# Altium footprint library MainPcblib.PcbLib: 316 footprints (part 3 of 20)
Each footprint in its own frame and in the unit in brackets; x right, y up, seen from the top. Pads: shape width x height; smd on the part's side, far side on the other; paste and mask are expansions set on the pad; w line width, h text height; cw(c..) or ccw(c..) is an arc to the next point about the centre after c.
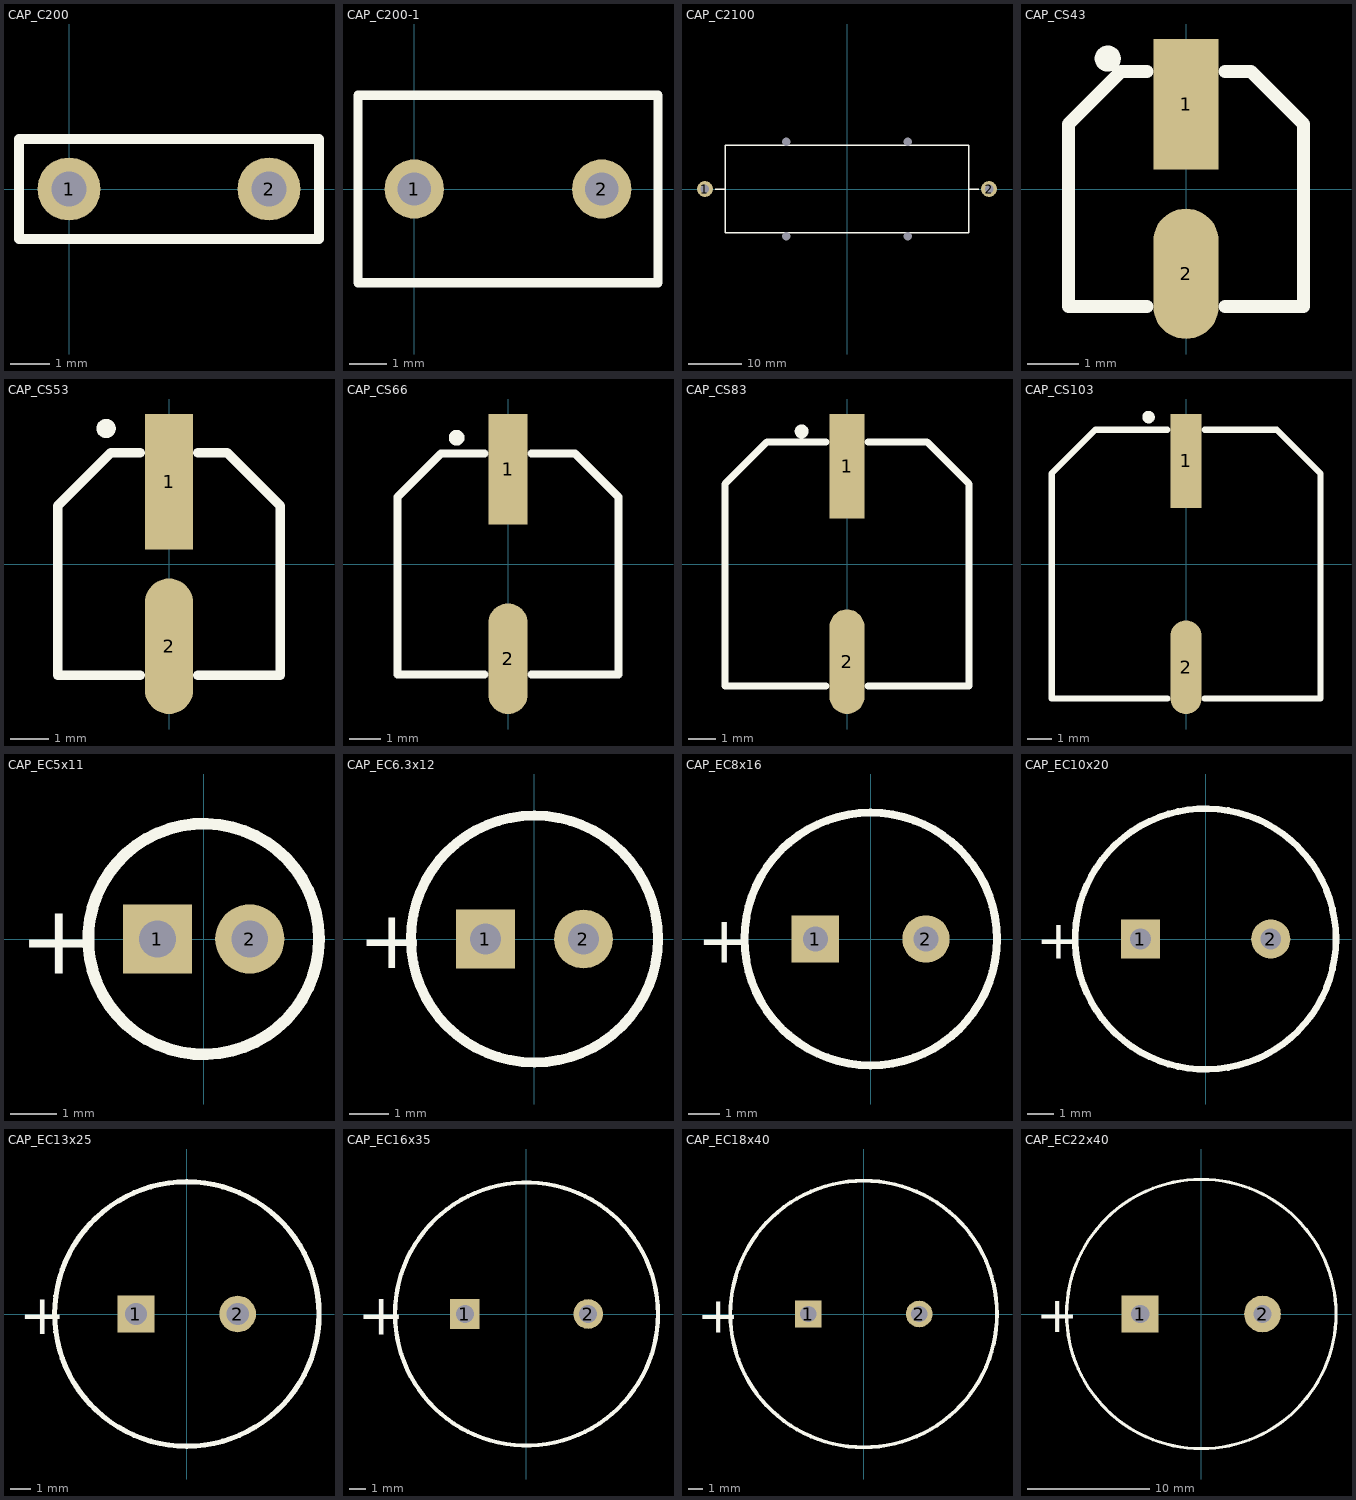
[diagram p2: the footprints below, top view; thin cyan lines are the x and y axes]

## CAP_C200 [mm]
pads (2):
  round 1.6 hole 0.9: 1(0,0) 2(5.08,0)
Top Overlay:
  lines w0.254: -1.27,-1.27 0,-1.27 5.08,-1.27 6.35,-1.27 6.35,1.27 5.08,1.27 0,1.27 -1.27,1.27 -1.27,-1.27

## CAP_C200-1 [mm]
pads (2):
  round 1.6 hole 0.9: 1(0,0) 2(5.08,0)
Top Overlay:
  lines w0.254: -0.508,-2.54 4.572,-2.54 ; 0,2.54 5.08,2.54 ; 1.016,-2.54 -1.524,-2.54 -1.524,2.54 1.016,2.54 ; 4.064,-2.54 6.604,-2.54 6.604,2.54 4.064,2.54

## CAP_C2100 [mm] "C 100n/1kV paper in oil"
pads (6):
  round 3 hole 1.6: 1(-26.67,0) 2(26.67,0)
  round 0 hole 1.6: 3(-11.43,-8.89) 4(-11.43,8.89) 5(11.43,8.89) 6(11.43,-8.89)
Top Overlay:
  lines w0.254: -24.765,0 -22.86,0 ; 22.86,0 24.765,0 ; -22.86,0 -22.86,8.255 22.86,8.255 22.86,-8.255 -22.86,-8.255 -22.86,0

## CAP_CS43 [mil] "SMD CAP 4.3mm x2"
height 200
pads (2):
  rect 50x100 smd: 1(0,65)
  oval 50x100 smd: 2(0,-65)
Top Overlay:
  circle w10: c-60,100 r5
  lines w10: -30,-90 -90,-90 -90,50 -50,90 -30,90 ; 30,-90 90,-90 90,50 50,90 30,90

## CAP_CS53 [mil] "SMD CAP 5.3mm x2"
height 200
pads (2):
  rect 50x140 smd: 1(0,85)
  oval 50x140 smd: 2(0,-85)
Top Overlay:
  circle w10: c-65,140 r5
  lines w10: -30,-115 -115,-115 -115,60 -60,115 -30,115 ; 30,-115 115,-115 115,60 60,115 30,115

## CAP_CS66 [mil] "SMD CAP 6.6mm x2"
height 200
pads (2):
  rect 50x140 smd: 1(0,120)
  oval 50x140 smd: 2(0,-120)
Top Overlay:
  circle w10: c-65,160 r5
  lines w10: -30,-140 -140,-140 -140,85 -85,140 -30,140 ; 30,-140 140,-140 140,85 85,140 30,140

## CAP_CS83 [mil] "SMD CAP 8.3mm x2"
height 400
pads (2):
  rect 50x150 smd: 1(0,140)
  oval 50x150 smd: 2(0,-140)
Top Overlay:
  circle w10: c-65,190 r5
  lines w10: -30,-175 -175,-175 -175,115 -115,175 -30,175 ; 30,-175 175,-175 175,115 115,175 30,175

## CAP_CS103 [mil] "SMD CAP 10.3mm x2"
height 400
pads (2):
  rect 50x150 smd: 1(0,165)
  oval 50x150 smd: 2(0,-165)
Top Overlay:
  circle w10: c-60,235 r5
  lines w10: -30,-215 -215,-215 -215,145 -145,215 -30,215 ; 30,-215 215,-215 215,145 145,215 30,215

## CAP_EC5x11 [mm] "220uF/6.3V;220uF/10V;100uF/16V;68uF/25V;33uF/35V;22uF/50V;10uF/63V;4.7uF/100V;1uF/160V;1uF/200V"
height 11
pads (2):
  rect 1.5x1.5 hole 0.8: 1(-1,0)
  round 1.5 hole 0.8: 2(1,0)
Top Overlay:
  circle w0.254: c0,0 r2.5
  text "+" at -4,-0.75 h1.5

## CAP_EC6.3x12 [mm] "470uF/6.3V;330uF/10V;220uF/16V;100uF/25V;68uF/35V;47uF/50V;33uF/63V;10uF/100V;2.2uF/160V;2.2uF/200V;1uF/250V;1uF/350V"
height 12
pads (2):
  rect 1.5x1.5 hole 0.8: 1(-1.25,0)
  round 1.5 hole 0.8: 2(1.25,0)
Top Overlay:
  circle w0.254: c0,0 r3.15
  text "+" at -4.5,-0.75 h1.5

## CAP_EC8x16 [mm] "1000uF/6.3V;1000uF/10V;1000uF/16V;470uF/25V;220uF/35V;100uF/50V;100uF/63V;33uF/100V;4.7uF/160V;3.3uF/200V;2.2uF/250V;1uF/400V;1uF/450V"
height 16
pads (2):
  rect 1.5x1.5 hole 0.8: 1(-1.75,0)
  round 1.5 hole 0.8: 2(1.75,0)
Top Overlay:
  circle w0.254: c0,0 r4
  text "+" at -5.5,-0.75 h1.5

## CAP_EC10x20 [mm] "3300uF/6.3V;2200uF/10V;1000uF/25V;680uF/35V;330uF/50V;220uF/63V;100uF/100V;33uF/160V;33uF/200V;22uF/250V;10uF/350V;10uF/400V;6.8uF/450V"
height 20
pads (2):
  rect 1.5x1.5 hole 0.8: 1(-2.5,0)
  round 1.5 hole 0.8: 2(2.5,0)
Top Overlay:
  circle w0.254: c0,0 r5
  text "+" at -6.5,-0.75 h1.5

## CAP_EC13x25 [mm] "6800uF/6.3V;4700uF/10V;3300uF/16V;2200uF/25V;1000uF/35V;1000uF/50V;680uF/63V;220uF/100V;68uF/160V;68uF/200V;33uF/250V;22uF/350V;22uF/400V;10uF/450V"
height 25
pads (2):
  rect 1.8x1.8 hole 1.1: 1(-2.5,0)
  round 1.8 hole 1.1: 2(2.5,0)
Top Overlay:
  circle w0.254: c0,0 r6.5
  text "+" at -8.25,-1 h2

## CAP_EC16x35 [mm] "10000uF/6.3V;10000uF/10V;6800uF/16V;4700uF/25V;3300uF/35V;2200uF/50V;1000uF/63V;680uF/100V;220uF/160V;100uF/200V;100uF/250V;68uF/350V;47uF/400V;33uF/450V"
height 35
pads (2):
  rect 1.8x1.8 hole 1.1: 1(-3.75,0)
  round 1.8 hole 1.1: 2(3.75,0)
Top Overlay:
  circle w0.254: c0,0 r8
  text "+" at -10.25,-1.25 h2.5

## CAP_EC18x40 [mm] "15000uF/6.3V;15000uF/10V;10000uF/16V;6800uF/25V;4700uF/35V;3300uF/50V;2200uF/63V;1000uF/100V;330uF/160V;220uF/200V;100uF/350V;68uF/400V;68uF/450V"
height 40
pads (2):
  rect 1.8x1.8 hole 1.1: 1(-3.75,0)
  round 1.8 hole 1.1: 2(3.75,0)
Top Overlay:
  circle w0.254: c0,0 r9
  text "+" at -11.25,-1.25 h2.5

## CAP_EC22x40 [mm] "2200uF/6.3V;15000uF/16V;10000uF/25V;6800uF/35V;4700uF/50V;3300uF/63V;470uF/160V;470uF/200V;220uF/250V;100uF/400V;100uF/450V"
height 40
pads (2):
  rect 3x3 hole 1.5: 1(-5,0)
  round 3 hole 1.5: 2(5,0)
Top Overlay:
  circle w0.254: c0,0 r11
  text "+" at -13.5,-1.5 h3